# Altium schematic symbol library Hydroscope.SCHLIB: 61 symbols (part 1 of 2)
Pins are listed as number, name and electrical type; pins without a type are passive.

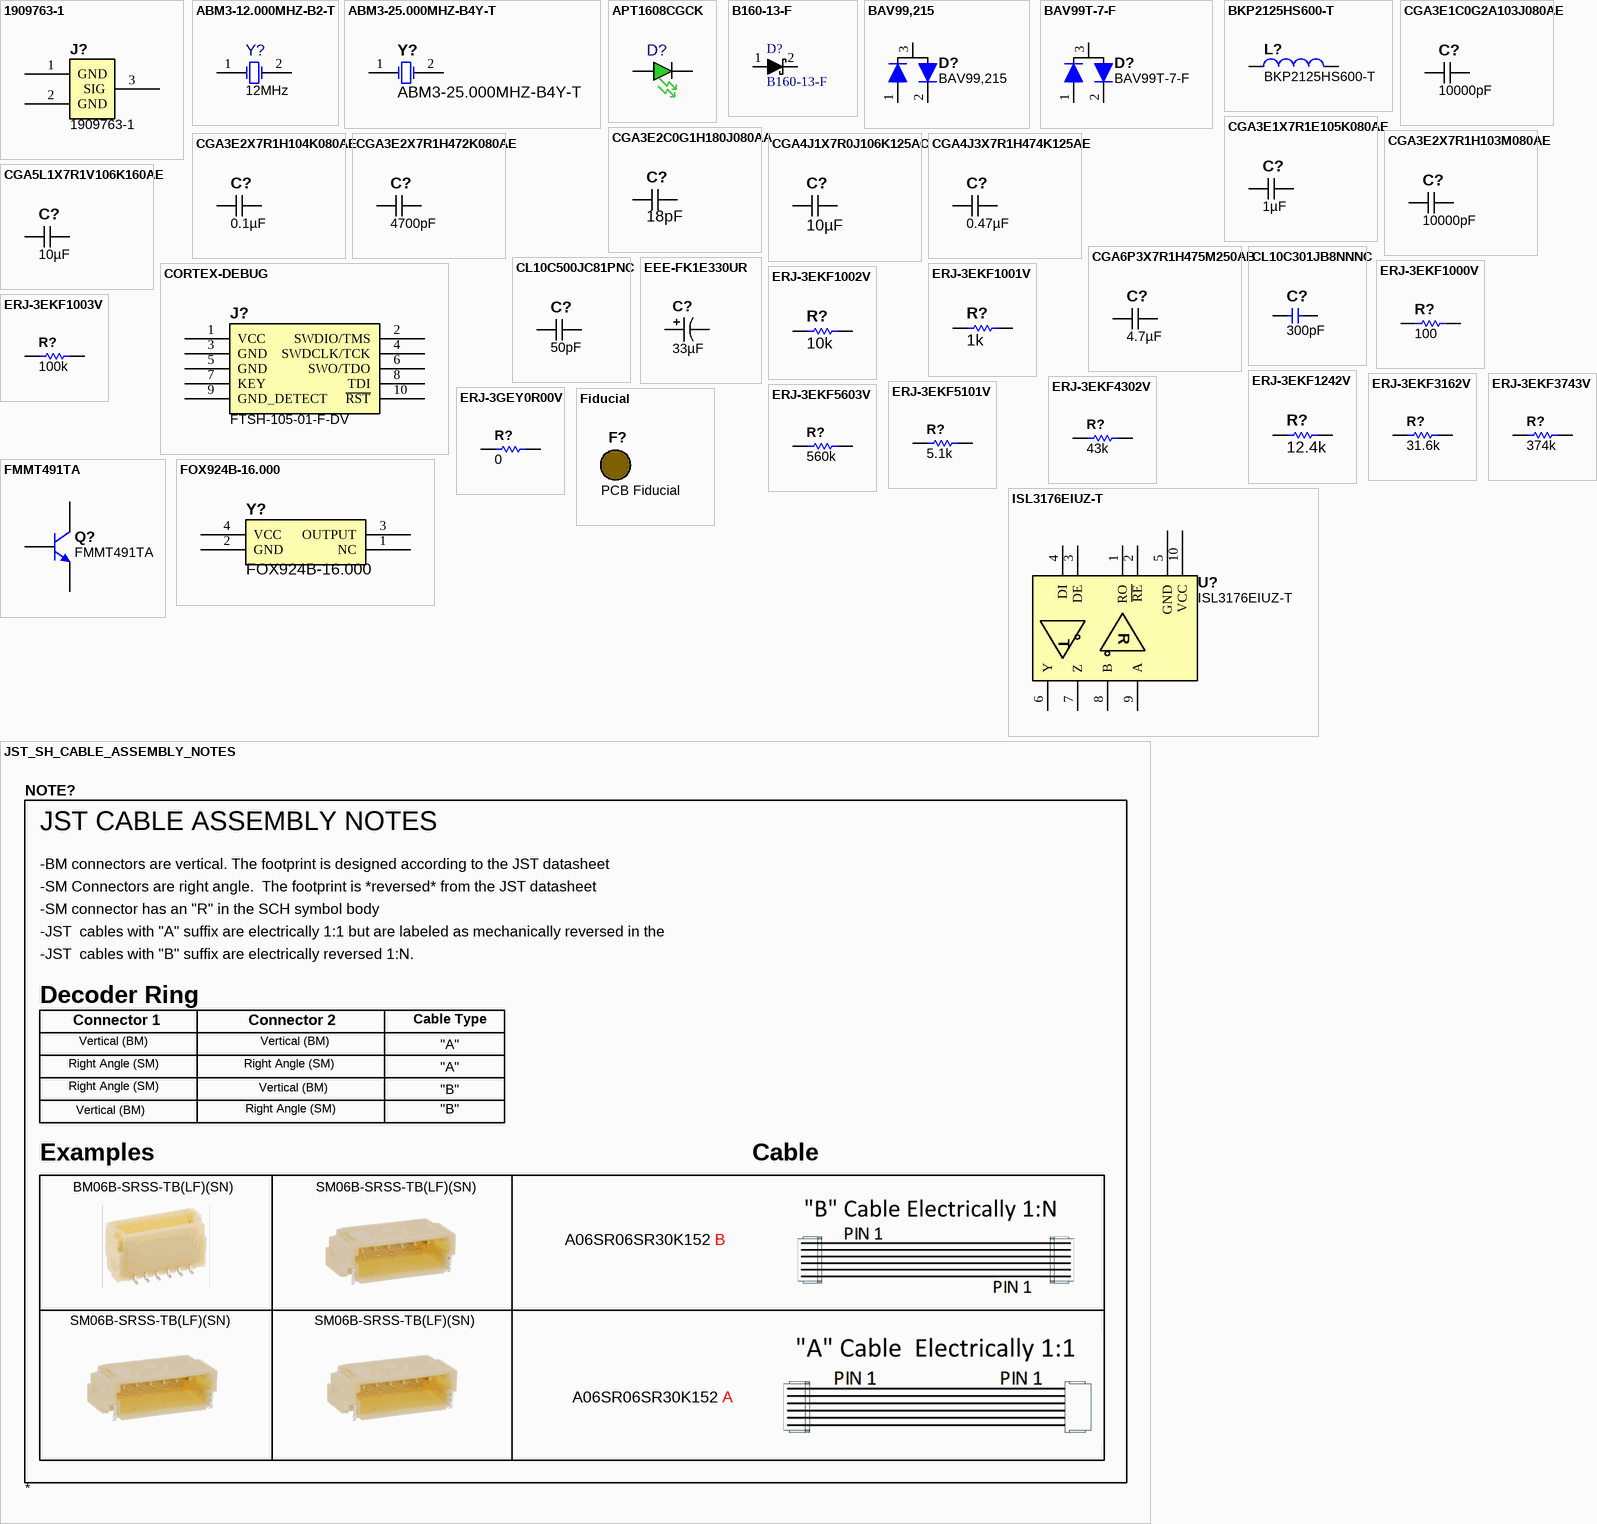
[diagram p0: symbols 1909763-1 to JST_SH_CABLE_ASSEMBLY_NOTES]

## 1909763-1
designator J?
CONN UMCC JACK STR 50OHM SMD; Manufacturer: TE Connectivity AMP Connectors; Connector Style: Ultra Miniature Coaxial; Connector Type: Jack, Male Pin; Contact Termination: Solder; Body Material: Copper Alloy; Body Finish: Gold; Dielectric Material: Liquid Crystal Polymer (LCP); Voltage Rating: 60V; Mating Cycles: 30; Insertion Loss: 0.24dB; Value: 1909763-1; Supplier 1: Digi-Key; Supplier Part Number 1: A118077CT-ND; Manufacturer Part Number: 1909763-1; RoHS: RoHS Compliant; Category: Connectors, Interconnects; Stock 1: 75031; Pricing 1: 1=0.49, 10=0.462, 25=0.416, 50=0.3696, 100=0.3542, 250=0.3234, 500=0.308, 1000=0.2541, 2500=0.231 (USD); Packaging: Cut Tape (CT); Part Status: Active; Shield Termination: Solder; Impedance: 50 Ohm; Mounting Type: Surface Mount; Mounting Feature: -; Cable Group: -; Fastening Type: Snap-On; Features: -; Housing Color: Ivory; Ingress Protection: -; Includes: -; Center Contact Plating: Gold; Operating Temperature: -40°C ~ 90°C; Center Contact Material: Copper Alloy; ComponentLink1URL: http://www.te.com/commerce/DocumentDelivery/DDEController?Action=srchrtrv&DocNm=1909763&DocType=Customer+Drawing&DocLang=English; ComponentLink1Description: http://www.te.com/commerce/DocumentDelivery/DDEController?Action=srchrtrv&DocNm=1909763&DocType=Customer+Drawing&DocLang=English
footprint 1909763-1 (CONN UMCC JACK STR 50OHM SMD)
pins: 1 GND, 2 GND, 3 SIG

## ABM3-12.000MHZ-B2-T
designator Y?, comment 12MHz
CRYSTAL 12.000MHZ 18PF SMD; Manufacturer: Abracon Corporation; Manufacturer Part Number: ABM3-12.000MHZ-B2-T; Frequency Stability: ±50ppm; Frequency Tolerance: ±20ppm; Operating Mode: Fundamental; Supplier 1: Digi-Key; RoHS: RoHS Compliant; Category: Crystals and Oscillators; Stock 1: 22557; Pricing 1: 1=1.88, 10=1.625, 50=1.425, 100=1.125, 500=0.95 (USD); Type: MHz Crystal; Frequency: 12MHz; Load Capacitance: 18pF; Operating Temperature: -20°C ~ 70°C; Mounting Type: Surface Mount; Package / Case: 2-SMD, No Lead (DFN, LCC); Size / Dimension: 0.197" L x 0.126" W (5.00mm x 3.20mm); Height: 0.051" (1.30mm); Packaging: Cut Tape (CT); ComponentLink1URL: http://www.abracon.com/Resonators/abm3.pdf; ComponentLink1Description: http://www.abracon.com/Resonators/abm3.pdf; Supplier Part Number 1: 535-9100-1-ND; Value: 12MHz
footprint ABM3 (Abracon Crystal 5x3.2mm)
pins: 1 OSC1, 2 OSC2

## ABM3-25.000MHZ-B4Y-T
designator Y?
25MHz ±30ppm Crystal 18pF 30 Ohm -20°C ~ 70°C  Surface Mount 2-SMD, No Lead (DFN, LCC); Manufacturer: Abracon; ESR (Equivalent Series Resistance): 30R; Value: ABM3-25.000MHZ-B4Y-T; Supplier 1: Digi-Key; Supplier Part Number 1: 535-13587-1-ND; Manufacturer Part Number: ABM3-25.000MHZ-B4Y-T; Stock 1: 1849; Pricing 1: 1=1.09, 10=0.961, 50=0.8988, 100=0.7942, 500=0.7524 (USD); Mount: Surface Mount; Case/Package: SMD/SMT; Min Operating Temperature: -20°C; Max Operating Temperature: 70°C; Packaging: Tape and Reel; Frequency: 25MHz; Load Capacitance: 18pF; Frequency Stability: 30ppm; Frequency Tolerance: 30ppm; Length: 0.197inch; Height: 0.051inch; Width: 0.126inch; ComponentLink1URL: http://www.abracon.com/Resonators/abm3.pdf; ComponentLink1Description: http://www.abracon.com/Resonators/abm3.pdf
footprint ABM3 (Abracon Crystal 5x3.2mm)
pins: 1 OSC1, 2 OSC2

## APT1608CGCK
designator D?, comment LED 1.6X0.8MM 570NM GRN CLR SMD  (value not drawn)
Manufacturer: Kingbright Corp; Manufacturer Part Number: APT1608CGCK; Wavelength - Peak: 574nm; Millicandela Rating: 50mcd; Voltage - Forward (Vf) Typ: 2.1V; Viewing Angle: 120°; Color: Green; Current - Test: 20mA; Lens Type: Clear; Lens Style/Size: Rectangle with Flat Top, 1.2mm x 0.8mm; Value: LED 1.6X0.8MM 570NM GRN CLR SMD; RoHS: RoHS Compliant; Wavelength - Dominant: 570nm; Size / Dimension: 1.60mm L x 0.80mm W; Package / Case: 0603 (1608 Metric); Mounting Type: Surface Mount; Packaging: Tape & Reel (TR); Supplier 1: Digi-Key; Supplier Part Number 1: 754-1116-1-ND; Category: Optoelectronics; Stock 1: 89450; Pricing 1: 1=0.2, 10=0.153, 25=0.1224, 100=0.1105, 250=0.102, 500=0.0918 (USD); Height: 0.75mm; Luminous Flux @ Current - Test: -; ComponentLink1URL: http://www.us.kingbright.com/images/catalog/SPEC/APT1608CGCK.pdf; ComponentLink1Description: http://www.us.kingbright.com/images/catalog/SPEC/APT1608CGCK.pdf; Supplier 2: Digikey; Supplier Part Number 2: 160-2162-1-ND
footprint LED_0603 - GREEN
pins: A, C

## B160-13-F
designator D?
DIODE SCHOTTKY 60V 1A SMA; Manufacturer: Diodes Inc; CategorySort: 400; Voltage - Forward (Vf) (Max) @ If: 700mV @ 1A; Speed: Fast Recovery =< 500ns- > 200mA (Io); Current - Reverse Leakage @ Vr: 500µA @ 60V; Capacitance @ Vr- F: 110pF @ 4V- 1MHz; Num Pins: 2; Diode Suffix: 1A_2C; Category: Diodes; Value: B160-13-F; Manufacturer Part Number: B160-13-F; ComponentLink1Description: Internal Datasheet; ComponentLink1URL: http://www.diodes.com/datasheets/ds13002.pdf; ComponentLink2Description: External Datasheet; ComponentLink2URL: http://www.diodes.com/datasheets/ds13002.pdf; Supplier 1: Digi-Key; Supplier Part Number 1: B160-FDICT-ND; SortValue: B160-13-F; Diode Type: Schottky; Voltage - DC Reverse (Vr) (Max): 60V; Current - Average Rectified (Io): 1A; Reverse Recovery Time (trr): -; Mounting Type: Surface Mount; Package: DO-214AC- SMA; Supplier Device Package: SMA; Packaging: Cut Tape (CT)
footprint D_SMA_P
footprint -
pins: 1 A, 2 K

## BAV99,215
designator D?
DIODE ARRAY GP 100V 215MA SOT23; Manufacturer: NXP Semiconductors; Peak Non-Repetitive Surge Current: 4A; Reverse Recovery Time: 4ns; Peak Reverse Current: 500nA; Forward Voltage: 1.25V; Power Dissipation: 250mW; Max Power Dissipation: 250W; Breakdown Voltage: 75V; Supplier 1: Digi-Key; Supplier Part Number 1: 954-BAV99215-CHP; Manufacturer Part Number: BAV99,215; Stock 1: 0; Mount: Surface Mount; Case/Package: TO-236-3; Number of Pins: 3; Weight: 0.01lb; Contact Plating: Tin,Matte; Min Operating Temperature: -65°C; Max Operating Temperature: 150°C; Packaging: Tape and Reel; Forward Current: 215mA; Max Repetitive Reverse Voltage (Vrrm): 100V; Max Surge Current: 4A; Package Quantity: 1; Recovery Time: 4ns; Average Rectified Current: 215mA; Max Forward Surge Current (Ifsm): 4A; Termination: SMD/SMT; Voltage: 100V; Max Reverse Voltage (DC): 100V; Length: 0.25inch; Height: 0.25inch; Width: 0.25inch; Lead Free: Lead Free; REACH SVHC: No SVHC; ComponentLink1URL: https://datasheet.ciiva.com/33728/953882-33728752.pdf; ComponentLink1Description: https://datasheet.ciiva.com/33728/953882-33728752.pdf; ComponentLink2URL: https://datasheet.ciiva.com/904/bav99-ser-904513.pdf; ComponentLink2Description: https://datasheet.ciiva.com/904/bav99-ser-904513.pdf; ComponentLink3URL: https://datasheet.ciiva.com/4434/bav99-ser-4434805.pdf; ComponentLink3Description: https://datasheet.ciiva.com/4434/bav99-ser-4434805.pdf; ComponentLink4URL: https://datasheet.ciiva.com/16474/bav99-ser-16474903.pdf; ComponentLink4Description: https://datasheet.ciiva.com/16474/bav99-ser-16474903.pdf; ComponentLink5URL: https://datasheet.ciiva.com/22628/953882-22628007.pdf; ComponentLink5Description: https://datasheet.ciiva.com/22628/953882-22628007.pdf; ComponentLink6URL: https://datasheet.ciiva.com/36858/953882-36858552.pdf; ComponentLink6Description: https://datasheet.ciiva.com/36858/953882-36858552.pdf; ComponentLink7URL: https://datasheet.ciiva.com/904/bav99-ser-904509.pdf; ComponentLink7Description: https://datasheet.ciiva.com/904/bav99-ser-904509.pdf; ComponentLink8URL: https://datasheet.ciiva.com/904/bav99-ser-904511.pdf; ComponentLink8Description: https://datasheet.ciiva.com/904/bav99-ser-904511.pdf; Value: BAV99,215
footprint SOT-23
pins: 1 A, 2 C, 3 AC

## BAV99T-7-F
designator D?
DIODES INC.         BAV99T-7-F            Small Signal Diode, Switching, Dual Series, 85 V, 155 mA, 1.25 V, 4 ns, 4 A; Peak Non-Repetitive Surge Current: 4A; Forward Current: 155mA; Reverse Recovery Time: 4ns; Peak Reverse Current: 2uA; Max Repetitive Reverse Voltage (Vrrm): 85V; Forward Voltage: 1.25V; Power Dissipation: 150mW; Average Rectified Current: 75mA; Capacitance: 1.5pF; Current Rating: 50mA; Supplier 1: Digi-Key; Supplier Part Number 1: BAV99T-FDICT-ND; Manufacturer: Diodes; Manufacturer Part Number: BAV99T-7-F; Stock 1: 184990; Mount: Surface Mount; Case/Package: SOT-523; Number of Pins: 3; Weight: 7.1E-05oz; Contact Plating: Tin,Matte; Min Operating Temperature: -65°C; Max Operating Temperature: 150°C; Packaging: Tape and Reel; Max Surge Current: 4A; Package Quantity: 3000; Recovery Time: 4ns; Max Forward Surge Current (Ifsm): 4A; Max Reverse Voltage (DC): 85V; Length: 1.6mm; Height: 0.75mm; Width: 0.8mm; Lead Free: Lead Free; REACH SVHC: No SVHC; ComponentLink1URL: https://datasheet.ciiva.com/8301/ds30260-8301823.pdf; ComponentLink1Description: https://datasheet.ciiva.com/8301/ds30260-8301823.pdf; ComponentLink2URL: https://datasheet.ciiva.com/25946/ds30260-25946623.pdf; ComponentLink2Description: https://datasheet.ciiva.com/25946/ds30260-25946623.pdf; Value: BAV99T-7-F; Pricing 1: 1=0.34, 10=0.28, 100=0.1485, 500=0.09772, 1000=0.06645 (USD); Power Rating: 150mW; Voltage Rating (DC): 85V; Radiation Hardening: No
footprint D_SOT-523_P (SOT-523 Diode - Polarized)
pins: 1 A, 2 C, 3 AC

## BKP2125HS600-T
designator L?
FERRITE BEAD 60 OHM 0805 1LN; Manufacturer: Taiyo Yuden; Filter Type: Power Line; Number of Lines: 1; Impedance @ Frequency: 60 Ohm @ 100MHz; Current Rating (Max): 3A; DC Resistance (DCR) (Max): 25 mOhm; Manufacturer Part Number: BKP2125HS600-T; RoHS: RoHS Compliant; Category: Filters; Packaging: Tape & Reel (TR); Ratings: -; Operating Temperature: -55°C ~ 85°C; Package / Case: 0805 (2012 Metric); Mounting Type: Surface Mount; Height (Max): 0.041" (1.05mm); Size / Dimension: 0.079" L x 0.049" W (2.00mm x 1.25mm); ComponentLink1URL: http://ds.yuden.co.jp/TYCOMPAS/ut/detail.do?productNo=BKP2125HS600-T&fileName=BKP2125HS600-T_SS&mode=specSheetDownload; ComponentLink1Description: http://ds.yuden.co.jp/TYCOMPAS/ut/detail.do?productNo=BKP2125HS600-T&fileName=BKP2125HS600-T_SS&mode=specSheetDownload; Value: BKP2125HS600-T; Supplier 1: Digi-Key; Supplier Part Number 1: 587-3973-1-ND; Stock 1: 7069; Pricing 1: 1=0.21, 10=0.17, 50=0.1094, 100=0.0943, 250=0.07548, 500=0.06792, 1000=0.0566 (USD); ComponentLink2URL: http://ds.yuden.co.jp/TYCOMPAS/ut/detail.do?productNo=BKP2125HS600-TV&fileName=BKP2125HS600-TV_SS&mode=specSheetDownload; ComponentLink2Description: http://ds.yuden.co.jp/TYCOMPAS/ut/detail.do?productNo=BKP2125HS600-TV&fileName=BKP2125HS600-TV_SS&mode=specSheetDownload
footprint C0805_0.8mm (Chip Capacitor, Body 2.0x0.8mm, IPC High Density)
pins: 1, 2

## CGA3E1C0G2A103J080AE
designator C?, comment 10000pF
CAP CER 10000PF 100V C0GNP0 0603; Manufacturer Part Number: CGA3E1C0G2A103J080AE; Manufacturer: TDK Corporation; Temperature Coefficient: C0G, NP0; Tolerance: ±5%; Substitution Notes: 10000pF , 100V , ±5% , C0G, NP0 , -55°C ~ 125°C , AEC-Q200 , 0603; Value: 10000pF; ComponentLink1Description: Datasheet (Internal); ComponentLink1URL: datasheets\TDK\mlcc_automotive_general_en.pdf; ComponentLink2Description: Datasheet (External); ComponentLink2URL: https://product.tdk.com/info/en/catalog/datasheets/mlcc_automotive_general_en.pdf; Supplier 1: Digikey; Supplier Part Number 1: 445-175658-1-ND; Category: Capacitors; Voltage - Rated: 100V; Operating Temperature: -55°C ~ 125°C; Ratings: AEC-Q200; Package: 0603; Thickness (Max): 0.95MM; Features: Soft Termination
footprint C0603_0.95MM_HD
footprint C0603_0.95MM_MD
footprint C0603_0.95MM_LD
pins: 1, 2 1

## CGA3E1X7R1E105K080AE
designator C?, comment 1µF
CAP CER 1UF 25V X7R 0603; Manufacturer Part Number: CGA3E1X7R1E105K080AE; Manufacturer: TDK Corporation; Tolerance: ±10%; Substitution Notes: 1µF , 25V , ±10% , X7R , -55°C ~ 125°C , AEC-Q200 , 0603; Value: 1µF; Temperature Coefficient: X7R; ComponentLink1Description: Datasheet (Internal); ComponentLink1URL: datasheets\TDK\mlcc_automotive_general_en.pdf; ComponentLink2Description: Datasheet (External); ComponentLink2URL: https://product.tdk.com/info/en/catalog/datasheets/mlcc_automotive_general_en.pdf; Supplier 1: Digikey; Supplier Part Number 1: 445-173628-1-ND; Category: Capacitors; Voltage - Rated: 25V; Operating Temperature: -55°C ~ 125°C; Ratings: AEC-Q200; Package: 0603; Thickness (Max): 0.95MM; Features: Soft Termination
footprint C0603_0.95MM_HD
footprint C0603_0.95MM_MD
footprint C0603_0.95MM_LD
pins: 1, 2 1

## CGA3E2C0G1H180J080AA
designator C?, comment 18pF
CAP CER 18PF 50V C0G 0603; Manufacturer Part Number: CGA3E2C0G1H180J080AA; Manufacturer: TDK Corporation; Temperature Coefficient: C0G, NP0; Tolerance: ±5%; Substitution Notes: 18pF , 50V , ±5% , C0G, NP0 , -55°C ~ 125°C , AEC-Q200 , 0603; Value: 18pF; ComponentLink1Description: Datasheet (Internal); ComponentLink1URL: datasheets\TDK\mlcc_automotive_general_en.pdf; ComponentLink2Description: Datasheet (External); ComponentLink2URL: https://product.tdk.com/info/en/catalog/datasheets/mlcc_automotive_general_en.pdf; Supplier 1: Digikey; Supplier Part Number 1: 445-5631-1-ND; Category: Capacitors; Voltage - Rated: 50V; Operating Temperature: -55°C ~ 125°C; Ratings: AEC-Q200; Package: 0603; Thickness (Max): 0.90MM; Features: -
footprint C0603_0.90MM_HD
footprint C0603_0.90MM_MD
footprint C0603_0.90MM_LD
pins: 1, 2 1

## CGA3E2X7R1H103M080AE
designator C?, comment 10000pF
CAP CER 10000PF 50V X7R 0603; Manufacturer Part Number: CGA3E2X7R1H103M080AE; Manufacturer: TDK Corporation; Tolerance: ±20%; Substitution Notes: 10000pF , 50V , ±20% , X7R , -55°C ~ 125°C , AEC-Q200 , 0603; Value: 10000pF; Temperature Coefficient: X7R; ComponentLink1Description: Datasheet (Internal); ComponentLink1URL: datasheets\TDK\mlcc_automotive_general_en.pdf; ComponentLink2Description: Datasheet (External); ComponentLink2URL: https://product.tdk.com/info/en/catalog/datasheets/mlcc_automotive_general_en.pdf; Supplier 1: Digikey; Supplier Part Number 1: 445-15956-1-ND; Category: Capacitors; Voltage - Rated: 50V; Operating Temperature: -55°C ~ 125°C; Ratings: AEC-Q200; Package: 0603; Thickness (Max): 0.90MM; Features: Soft Termination
footprint C0603_0.90MM_HD
footprint C0603_0.90MM_MD
footprint C0603_0.90MM_LD
pins: 1, 2 1

## CGA3E2X7R1H104K080AE
designator C?, comment 0.1µF
CAP CER 0.1UF 50V X7R 0603; Manufacturer Part Number: CGA3E2X7R1H104K080AE; Manufacturer: TDK Corporation; Tolerance: ±10%; Substitution Notes: 0.1µF , 50V , ±10% , X7R , -55°C ~ 125°C , AEC-Q200 , 0603; Value: 0.1µF; Temperature Coefficient: X7R; ComponentLink1Description: Datasheet (Internal); ComponentLink1URL: datasheets\TDK\mlcc_automotive_general_en.pdf; ComponentLink2Description: Datasheet (External); ComponentLink2URL: https://product.tdk.com/info/en/catalog/datasheets/mlcc_automotive_general_en.pdf; Supplier 1: Digikey; Supplier Part Number 1: 445-15957-1-ND; Category: Capacitors; Voltage - Rated: 50V; Operating Temperature: -55°C ~ 125°C; Ratings: AEC-Q200; Package: 0603; Thickness (Max): 0.90MM; Features: Soft Termination
footprint C0603_0.90MM_HD
footprint C0603_0.90MM_MD
footprint C0603_0.90MM_LD
pins: 1, 2 1

## CGA3E2X7R1H472K080AE
designator C?, comment 4700pF
CAP CER 4700PF 50V X7R 0603; Manufacturer Part Number: CGA3E2X7R1H472K080AE; Manufacturer: TDK Corporation; Tolerance: ±10%; Substitution Notes: 4700pF , 50V , ±10% , X7R , -55°C ~ 125°C , AEC-Q200 , 0603; Value: 4700pF; Temperature Coefficient: X7R; ComponentLink1Description: Datasheet (Internal); ComponentLink1URL: datasheets\TDK\mlcc_automotive_general_en.pdf; ComponentLink2Description: Datasheet (External); ComponentLink2URL: https://product.tdk.com/info/en/catalog/datasheets/mlcc_automotive_general_en.pdf; Supplier 1: Digikey; Supplier Part Number 1: 445-173691-1-ND; Category: Capacitors; Voltage - Rated: 50V; Operating Temperature: -55°C ~ 125°C; Ratings: AEC-Q200; Package: 0603; Thickness (Max): 0.95MM; Features: Soft Termination
footprint C0603_0.95MM_HD
footprint C0603_0.95MM_MD
footprint C0603_0.95MM_LD
pins: 1, 2 1

## CGA4J1X7R0J106K125AC
designator C?, comment 10µF
CAP CER 10UF 6.3V X7R 0805; Manufacturer Part Number: CGA4J1X7R0J106K125AC; Manufacturer: TDK Corporation; Tolerance: ±10%; Substitution Notes: 10µF , 6.3V , ±10% , X7R , -55°C ~ 125°C , AEC-Q200 , 0805; Value: 10µF; Temperature Coefficient: X7R; ComponentLink1Description: Datasheet (Internal); ComponentLink1URL: datasheets\TDK\mlcc_automotive_general_en.pdf; ComponentLink2Description: Datasheet (External); ComponentLink2URL: https://product.tdk.com/info/en/catalog/datasheets/mlcc_automotive_general_en.pdf; Supplier 1: Digikey; Supplier Part Number 1: 445-6971-1-ND; Category: Capacitors; Voltage - Rated: 6.3V; Operating Temperature: -55°C ~ 125°C; Ratings: AEC-Q200; Package: 0805; Thickness (Max): 1.45MM; Features: -
footprint C0805_1.45MM_HD
footprint C0805_1.45MM_MD
footprint C0805_1.45MM_LD
pins: 1, 2 1

## CGA4J3X7R1H474K125AE
designator C?, comment 0.47µF
CAP CER 0.47UF 50V X7R 0805; Manufacturer Part Number: CGA4J3X7R1H474K125AE; Manufacturer: TDK Corporation; Tolerance: ±10%; Substitution Notes: 0.47µF , 50V , ±10% , X7R , -55°C ~ 125°C , AEC-Q200 , 0805; Value: 0.47µF; Temperature Coefficient: X7R; ComponentLink1Description: Datasheet (Internal); ComponentLink1URL: datasheets\TDK\mlcc_automotive_general_en.pdf; ComponentLink2Description: Datasheet (External); ComponentLink2URL: https://product.tdk.com/info/en/catalog/datasheets/mlcc_automotive_general_en.pdf; Supplier 1: Digikey; Supplier Part Number 1: 445-8786-1-ND; Category: Capacitors; Voltage - Rated: 50V; Operating Temperature: -55°C ~ 125°C; Ratings: AEC-Q200; Package: 0805; Thickness (Max): 1.45MM; Features: Soft Termination
footprint C0805_1.45MM_HD
footprint C0805_1.45MM_MD
footprint C0805_1.45MM_LD
pins: 1, 2 1

## CGA5L1X7R1V106K160AE
designator C?, comment 10µF
CAP CER 10UF 35V X7R 1206; Manufacturer Part Number: CGA5L1X7R1V106K160AE; Manufacturer: TDK Corporation; Tolerance: ±10%; Substitution Notes: 10µF , 35V , ±10% , X7R , -55°C ~ 125°C , AEC-Q200 , 1206; Value: 10µF; Temperature Coefficient: X7R; ComponentLink1Description: Datasheet (Internal); ComponentLink1URL: datasheets\TDK\mlcc_automotive_general_en.pdf; ComponentLink2Description: Datasheet (External); ComponentLink2URL: https://product.tdk.com/info/en/catalog/datasheets/mlcc_automotive_general_en.pdf; Supplier 1: Digikey; Supplier Part Number 1: 445-172483-1-ND; Category: Capacitors; Voltage - Rated: 35V; Operating Temperature: -55°C ~ 125°C; Ratings: AEC-Q200; Package: 1206; Thickness (Max): 1.90MM; Features: Soft Termination
footprint C1206_1.90MM_HD
footprint C1206_1.90MM_MD
footprint C1206_1.90MM_LD
pins: 1, 2 1

## CGA6P3X7R1H475M250AB
designator C?, comment 4.7µF
CAP CER 4.7UF 50V X7R 1210; Manufacturer Part Number: CGA6P3X7R1H475M250AB; Manufacturer: TDK Corporation; Tolerance: ±20%; Substitution Notes: 4.7µF , 50V , ±20% , X7R , -55°C ~ 125°C , AEC-Q200 , 1210; Value: 4.7µF; Temperature Coefficient: X7R; ComponentLink1Description: Datasheet (Internal); ComponentLink1URL: datasheets\TDK\mlcc_automotive_general_en.pdf; ComponentLink2Description: Datasheet (External); ComponentLink2URL: https://product.tdk.com/info/en/catalog/datasheets/mlcc_automotive_general_en.pdf; Supplier 1: Digikey; Supplier Part Number 1: 445-13030-1-ND; Category: Capacitors; Voltage - Rated: 50V; Operating Temperature: -55°C ~ 125°C; Ratings: AEC-Q200; Package: 1210; Thickness (Max): 2.80MM; Features: -
footprint C1210_2.80MM_HD
footprint C1210_2.80MM_MD
footprint C1210_2.80MM_LD
pins: 1, 2 1

## CL10C301JB8NNNC
designator C?, comment 300pF
Cap Ceramic 300pF 50V C0G 5% SMD 0603 125C Paper T/R; Manufacturer Part Number: CL10C301JB8NNNC; Manufacturer: Samsung; Value: 300pF; ComponentLink1Description: https://datasheet.ciiva.com/25733/cl10c301jb8nnnc-25733017.pdf?src-supplier=Digi-Key; ComponentLink1URL: https://datasheet.ciiva.com/25733/cl10c301jb8nnnc-25733017.pdf?src-supplier=Digi-Key; Supplier 1: Digi-Key; Supplier Part Number 1: 1276-2261-1-ND; Tolerance: 5%; Stock 1: 199782; Pricing 1: 1 = 0.10000, 10 = 0.06500, 100 = 0.02910, 500 = 0.02080, 1000 = 0.01634 (USD); RoHS: Yes; Mount: Surface Mount; Case/Package: 0603; Case Code (Metric): 1608; Case Code (Imperial): 0603; Min Operating Temperature: -55°C; Max Operating Temperature: 125°C; Capacitance: 300pF; Dielectric: C0G; Package Quantity: 1; Packaging: Tape and Reel; Voltage Rating: 50V; Voltage Rating (DC): 50V; Length: 1.6mm; Height: 0.8mm; Width: 0.031inch; Thickness: 0.035inch; Depth: 0.8mm; Radiation Hardening: No; Lead Free: Lead Free
footprint C0603_0.90mm_MD (Capacitor 0603 - Medium Density)
pins: 1, 2

## CL10C500JC81PNC
designator C?, comment 50pF
CAP CER 50PF 100V C0G/NP0 0603; Manufacturer Part Number: CL10C500JC81PNC; Manufacturer: Samsung Electro-Mechanics; Temperature Coefficient: C0G, NP0; Tolerance: ±5%; Substitution Notes: 50pF , 100V , -55°C ~ 125°C , C0G, NP0  , AEC-Q200 , 0603; Value: 50pF; ComponentLink1Description: Datasheet (Internal); ComponentLink1URL: datasheets\Samsung\CL05B153KB5VPNC.pdf.pdf; ComponentLink2Description: Datasheet (External); ComponentLink2URL: http://www.samsungsem.com/kr/support/product-search/mlcc/__icsFiles/afieldfile/2017/05/25/CL05B153KB5VPNC.pdf; Supplier 1: Digikey; Supplier Part Number 1: 1276-6589-1-ND; Category: Capacitors; Voltage - Rated: 100V; Operating Temperature: -55°C ~ 125°C; Ratings: AEC-Q200; Package: 0603; Thickness (Max): 0.90MM; Features: -
footprint C0603_0.90MM_HD
footprint C0603_0.90MM_MD
footprint C0603_0.90MM_LD
pins: 1, 2 1

## CORTEX-DEBUG
designator J?, comment FTSH-105-01-F-DV
SAMTEC - FTSH-105-01-F-DV - .050 X .050; Value: FTSH-105-01-F-DV; Supplier 1: Newark; Manufacturer: SAMTEC; Manufacturer Part Number: FTSH-105-01-F-DV; Category: Connectors; Stock 1: 0; Pricing 1: 1=0.974, 25000=0.835, 50000=0.774 (USD); Supplier Part Number 1: 01R3399
footprint FTSH-105-04-F-DV - HD - NO_STEP (Connector for Cortex Serial Wire Debug)
footprint FTSH-105-04-F-DV - HD (Connector for Cortex Serial Wire Debug)
pins: 1 VCC, 2 SWDIO/TMS, 3 GND, 4 SWDCLK/TCK, 5 GND, 6 SWO/TDO, 7 KEY, 8 TDI, 9 GND_DETECT, 10 ~{RST}

## EEE-FK1E330UR
designator C?, comment 33µF
CAP ALUM 33UF 25V 20% SMD; Manufacturer Part Number: EEE-FK1E330UR; Manufacturer: Panasonic Electronic Components; Lifetime @ Temp#: 2000 Hrs @ 105°C; Ripple Current: 160mA; Impedance: 700 mOhm; Surface Mount Land Size: 0.209" L x 0.209" W (5.30mm x 5.30mm); F40: UR; Value_Voltage: 33µF  25V; Value: 33µF; Temperature Coefficient: Temperature Coefficient; ComponentLink1Description: Internal Datasheet; ComponentLink1URL: http://industrial.panasonic.com/www-cgi/jvcr13pz.cgi?E+PZ+3+ABA0120+EEEFK1E330UR+7+WW; ComponentLink2Description: External Datasheet; ComponentLink2URL: http://industrial.panasonic.com/www-cgi/jvcr13pz.cgi?E+PZ+3+ABA0120+EEEFK1E330UR+7+WW; Stocked: 0; Supplier 1: Digi-Key; Supplier Part Number 1: PCE3802CT-ND; Category: Capacitors; Sort Value: 33000000; Sort Value Package: C_33000000; Pricing: 1 = 0.63  ;  50 = 0.3576  ;  100 = 0.298  ;  250 = 0.22348  ;  500 = 0.19072 (USD); Sales Status: Active; Capacitance: 33µF; Voltage Rating: 25V; Tolerance: ±20%; Operating Temperature: -55°C ~ 105°C; Features: General Purpose; ESR (Equivalent Series Resistance): -; Mounting Type: Surface Mount; Package / Case: Radial- Can - SMD; Size / Dimension: 0.197" Dia (5.00mm); Height - Seated (Max): 0.228" (5.80mm); Lead Spacing: -; Packaging: Cut Tape (CT); Diameter: 5.00; Height: 5.80; Package: C
footprint C_ALU_C
pins: 1, 2 1

## ERJ-3EKF1000V
designator R?, comment 100
RES 100 OHM 1/10W 1% 0603 SMD; Manufacturer Part Number: ERJ-3EKF1000V; Manufacturer: Panasonic Electronic Components; Package Power: 0603  (0.1W); Power (Watts): 0.1W- 1/10W; Temperature Coefficient: ±100ppm/°C; Limiting Element Voltage: 75; Maximum Overload Voltage: 150; Maximum Working Voltage: 3.2V; Substitution Notes: 100 , ±1% , 0603 , AEC-Q200; Value: 100; ComponentLink1Description: Internal Datasheet; ComponentLink1URL: datasheets\Panasonic Electronic Components\AOA0000CE2.pdf; ComponentLink2Description: External Datasheet; ComponentLink2URL: http://industrial.panasonic.com/www-data/pdf/AOA0000/AOA0000CE2.pdf; Stocked: 0; Supplier 1: Digi-Key; Supplier Part Number 1: P100HCT-ND; Category: Resistors; Resistance (Ohms): 100; Composition: Thick Film; Features: -; Tolerance: ±1%; Package: 0603 (1608 Metric); Supplier Package: 0603; Size / Dimension: 0.063" L x 0.031" W (1.60mm x 0.80mm); Height: 0.55MM; Number of Terminations: 2; Packaging: Cut Tape (CT); Sort Value: 100; Sort Value Package: 603_100; Ratings: AEC-Q200
footprint R0603_MD
footprint R0603_HD (0603 Resistor - High Density)
footprint R0603_LD
pins: 1, 2

## ERJ-3EKF1001V
designator R?, comment 1k
RES 1K OHM 1/10W 1% 0603 SMD; Manufacturer Part Number: ERJ-3EKF1001V; Manufacturer: Panasonic Electronic Components; Package Power: 0603  (0.1W); Power (Watts): 0.1W- 1/10W; Temperature Coefficient: ±100ppm/°C; Limiting Element Voltage: 75; Maximum Overload Voltage: 150; Maximum Working Voltage: 10.0V; Substitution Notes: 1k , ±1% , 0603 , AEC-Q200; Value: 1k; ComponentLink1Description: Internal Datasheet; ComponentLink1URL: datasheets\Panasonic Electronic Components\AOA0000CE2.pdf; ComponentLink2Description: External Datasheet; ComponentLink2URL: http://industrial.panasonic.com/www-data/pdf/AOA0000/AOA0000CE2.pdf; Supplier 1: Digi-Key; Supplier Part Number 1: P1.00KHCT-ND; Category: Resistors; Resistance (Ohms): 1k; Composition: Thick Film; Features: -; Tolerance: ±1%; Package: 0603 (1608 Metric); Supplier Package: 0603; Size / Dimension: 0.063" L x 0.031" W (1.60mm x 0.80mm); Height: 0.55MM; Number of Terminations: 2; Packaging: Cut Tape (CT); Sort Value: 1000; Sort Value Package: 603_1000; Ratings: AEC-Q200
footprint R0603_0.55MM_HD
footprint R0603_0.55MM_MD
footprint R0603_0.55MM_LD
pins: 1, 2

## ERJ-3EKF1002V
designator R?, comment 10k
RES 10K OHM 1/10W 1% 0603 SMD; Manufacturer Part Number: ERJ-3EKF1002V; Manufacturer: Panasonic Electronic Components; Package Power: 0603  (0.1W); Power (Watts): 0.1W- 1/10W; Temperature Coefficient: ±100ppm/°C; Limiting Element Voltage: 75; Maximum Overload Voltage: 150; Maximum Working Voltage: 31.6V; Substitution Notes: 10k , ±1% , 0603 , AEC-Q200; Value: 10k; ComponentLink1Description: Internal Datasheet; ComponentLink1URL: datasheets\Panasonic Electronic Components\AOA0000CE2.pdf; ComponentLink2Description: External Datasheet; ComponentLink2URL: http://industrial.panasonic.com/www-data/pdf/AOA0000/AOA0000CE2.pdf; Supplier 1: Digi-Key; Supplier Part Number 1: P10.0KHCT-ND; Category: Resistors; Resistance (Ohms): 10k; Composition: Thick Film; Features: -; Tolerance: ±1%; Package: 0603 (1608 Metric); Supplier Package: 0603; Size / Dimension: 0.063" L x 0.031" W (1.60mm x 0.80mm); Height: 0.55MM; Number of Terminations: 2; Packaging: Cut Tape (CT); Sort Value: 10000; Sort Value Package: 603_10000; Ratings: AEC-Q200
footprint R0603_0.55MM_HD
footprint R0603_0.55MM_MD
footprint R0603_0.55MM_LD
pins: 1, 2

## ERJ-3EKF1003V
designator R?, comment 100k
RES 100K OHM 1/10W 1% 0603 SMD; Manufacturer Part Number: ERJ-3EKF1003V; Manufacturer: Panasonic Electronic Components; Package Power: 0603  (0.1W); Power (Watts): 0.1W- 1/10W; Temperature Coefficient: ±100ppm/°C; Limiting Element Voltage: 75; Maximum Overload Voltage: 150; Maximum Working Voltage: 75.0V; Substitution Notes: 100k , ±1% , 0603 , AEC-Q200; Value: 100k; ComponentLink1Description: Internal Datasheet; ComponentLink1URL: datasheets\Panasonic Electronic Components\AOA0000CE2.pdf; ComponentLink2Description: External Datasheet; ComponentLink2URL: http://industrial.panasonic.com/www-data/pdf/AOA0000/AOA0000CE2.pdf; Supplier 1: Digi-Key; Supplier Part Number 1: P100KHCT-ND; Category: Resistors; Resistance (Ohms): 100k; Composition: Thick Film; Features: -; Tolerance: ±1%; Package: 0603 (1608 Metric); Supplier Package: 0603; Size / Dimension: 0.063" L x 0.031" W (1.60mm x 0.80mm); Height: 0.55MM; Number of Terminations: 2; Packaging: Cut Tape (CT); Sort Value: 100000; Sort Value Package: 603_100000; Ratings: AEC-Q200
footprint R0603_0.55MM_HD
footprint R0603_0.55MM_MD
footprint R0603_0.55MM_LD
pins: 1, 2

## ERJ-3EKF1242V
designator R?, comment 12.4k
RES 12.4K OHM 1/10W 1% 0603 SMD; Manufacturer Part Number: ERJ-3EKF1242V; Manufacturer: Panasonic Electronic Components; Package Power: 0603  (0.1W); Power (Watts): 0.1W- 1/10W; Temperature Coefficient: ±100ppm/°C; Limiting Element Voltage: 75; Maximum Overload Voltage: 150; Maximum Working Voltage: 35.2V; Substitution Notes: 12.4k , ±1% , 0603 , AEC-Q200; Value: 12.4k; ComponentLink1Description: Internal Datasheet; ComponentLink1URL: datasheets\Panasonic Electronic Components\AOA0000CE2.pdf; ComponentLink2Description: External Datasheet; ComponentLink2URL: http://industrial.panasonic.com/www-data/pdf/AOA0000/AOA0000CE2.pdf; Supplier 1: Digi-Key; Supplier Part Number 1: P12.4KHCT-ND; Category: Resistors; Resistance (Ohms): 12.4k; Composition: Thick Film; Features: -; Tolerance: ±1%; Package: 0603 (1608 Metric); Supplier Package: 0603; Size / Dimension: 0.063" L x 0.031" W (1.60mm x 0.80mm); Height: 0.55MM; Number of Terminations: 2; Packaging: Cut Tape (CT); Sort Value: 12400; Sort Value Package: 603_12400; Ratings: AEC-Q200
footprint R0603_0.55MM_HD
footprint R0603_0.55MM_MD
footprint R0603_0.55MM_LD
pins: 1, 2

## ERJ-3EKF3162V
designator R?, comment 31.6k
RES 31.6K OHM 1/10W 1% 0603 SMD; Manufacturer Part Number: ERJ-3EKF3162V; Manufacturer: Panasonic Electronic Components; Package Power: 0603  (0.1W); Power (Watts): 0.1W- 1/10W; Temperature Coefficient: ±100ppm/°C; Limiting Element Voltage: 75; Maximum Overload Voltage: 150; Maximum Working Voltage: 56.2V; Substitution Notes: 31.6k , ±1% , 0603 , AEC-Q200; Value: 31.6k; ComponentLink1Description: Internal Datasheet; ComponentLink1URL: datasheets\Panasonic Electronic Components\AOA0000CE2.pdf; ComponentLink2Description: External Datasheet; ComponentLink2URL: http://industrial.panasonic.com/www-data/pdf/AOA0000/AOA0000CE2.pdf; Supplier 1: Digi-Key; Supplier Part Number 1: P31.6KHCT-ND; Category: Resistors; Resistance (Ohms): 31.6k; Composition: Thick Film; Features: -; Tolerance: ±1%; Package: 0603 (1608 Metric); Supplier Package: 0603; Size / Dimension: 0.063" L x 0.031" W (1.60mm x 0.80mm); Height: 0.55MM; Number of Terminations: 2; Packaging: Cut Tape (CT); Sort Value: 31600; Sort Value Package: 603_31600; Ratings: AEC-Q200
footprint R0603_0.55MM_HD
footprint R0603_0.55MM_MD
footprint R0603_0.55MM_LD
pins: 1, 2

## ERJ-3EKF3743V
designator R?, comment 374k
RES 374K OHM 1/10W 1% 0603 SMD; Manufacturer Part Number: ERJ-3EKF3743V; Manufacturer: Panasonic Electronic Components; Package Power: 0603  (0.1W); Power (Watts): 0.1W- 1/10W; Temperature Coefficient: ±100ppm/°C; Limiting Element Voltage: 75; Maximum Overload Voltage: 150; Maximum Working Voltage: 75.0V; Substitution Notes: 374k , ±1% , 0603 , AEC-Q200; Value: 374k; ComponentLink1Description: Internal Datasheet; ComponentLink1URL: datasheets\Panasonic Electronic Components\AOA0000CE2.pdf; ComponentLink2Description: External Datasheet; ComponentLink2URL: http://industrial.panasonic.com/www-data/pdf/AOA0000/AOA0000CE2.pdf; Supplier 1: Digi-Key; Supplier Part Number 1: P374KHCT-ND; Category: Resistors; Resistance (Ohms): 374k; Composition: Thick Film; Features: -; Tolerance: ±1%; Package: 0603 (1608 Metric); Supplier Package: 0603; Size / Dimension: 0.063" L x 0.031" W (1.60mm x 0.80mm); Height: 0.55MM; Number of Terminations: 2; Packaging: Cut Tape (CT); Sort Value: 374000; Sort Value Package: 603_374000; Ratings: AEC-Q200
footprint R0603_0.55MM_HD
footprint R0603_0.55MM_MD
footprint R0603_0.55MM_LD
pins: 1, 2

## ERJ-3EKF4302V
designator R?, comment 43k
RES 43K OHM 1/10W 1% 0603 SMD; Manufacturer Part Number: ERJ-3EKF4302V; Manufacturer: Panasonic Electronic Components; Package Power: 0603  (0.1W); Power (Watts): 0.1W- 1/10W; Temperature Coefficient: ±100ppm/°C; Limiting Element Voltage: 75; Maximum Overload Voltage: 150; Maximum Working Voltage: 65.6V; Substitution Notes: 43k , ±1% , 0603 , AEC-Q200; Value: 43k; ComponentLink1Description: Internal Datasheet; ComponentLink1URL: datasheets\Panasonic Electronic Components\AOA0000CE2.pdf; ComponentLink2Description: External Datasheet; ComponentLink2URL: http://industrial.panasonic.com/www-data/pdf/AOA0000/AOA0000CE2.pdf; Supplier 1: Digi-Key; Supplier Part Number 1: P43.0KHCT-ND; Category: Resistors; Resistance (Ohms): 43k; Composition: Thick Film; Features: -; Tolerance: ±1%; Package: 0603 (1608 Metric); Supplier Package: 0603; Size / Dimension: 0.063" L x 0.031" W (1.60mm x 0.80mm); Height: 0.55MM; Number of Terminations: 2; Packaging: Cut Tape (CT); Sort Value: 43000; Sort Value Package: 603_43000; Ratings: AEC-Q200
footprint R0603_0.55MM_HD
footprint R0603_0.55MM_MD
footprint R0603_0.55MM_LD
pins: 1, 2

## ERJ-3EKF5101V
designator R?, comment 5.1k
RES 5.1K OHM 1/10W 1% 0603 SMD; Manufacturer Part Number: ERJ-3EKF5101V; Manufacturer: Panasonic Electronic Components; Package Power: 0603  (0.1W); Power (Watts): 0.1W- 1/10W; Temperature Coefficient: ±100ppm/°C; Limiting Element Voltage: 75; Maximum Overload Voltage: 150; Maximum Working Voltage: 22.6V; Substitution Notes: 5.1k , ±1% , 0603 , AEC-Q200; Value: 5.1k; ComponentLink1Description: Internal Datasheet; ComponentLink1URL: datasheets\Panasonic Electronic Components\AOA0000CE2.pdf; ComponentLink2Description: External Datasheet; ComponentLink2URL: http://industrial.panasonic.com/www-data/pdf/AOA0000/AOA0000CE2.pdf; Supplier 1: Digi-Key; Supplier Part Number 1: P5.10KHCT-ND; Category: Resistors; Resistance (Ohms): 5.1k; Composition: Thick Film; Features: -; Tolerance: ±1%; Package: 0603 (1608 Metric); Supplier Package: 0603; Size / Dimension: 0.063" L x 0.031" W (1.60mm x 0.80mm); Height: 0.55MM; Number of Terminations: 2; Packaging: Cut Tape (CT); Sort Value: 5100; Sort Value Package: 603_5100; Ratings: AEC-Q200
footprint R0603_0.55MM_HD
footprint R0603_0.55MM_MD
footprint R0603_0.55MM_LD
pins: 1, 2

## ERJ-3EKF5603V
designator R?, comment 560k
RES 560K OHM 1/10W 1% 0603 SMD; Manufacturer Part Number: ERJ-3EKF5603V; Manufacturer: Panasonic Electronic Components; Package Power: 0603  (0.1W); Power (Watts): 0.1W- 1/10W; Temperature Coefficient: ±100ppm/°C; Limiting Element Voltage: 75; Maximum Overload Voltage: 150; Maximum Working Voltage: 75.0V; Substitution Notes: 560k , ±1% , 0603 , AEC-Q200; Value: 560k; ComponentLink1Description: Internal Datasheet; ComponentLink1URL: datasheets\Panasonic Electronic Components\AOA0000CE2.pdf; ComponentLink2Description: External Datasheet; ComponentLink2URL: http://industrial.panasonic.com/www-data/pdf/AOA0000/AOA0000CE2.pdf; Supplier 1: Digi-Key; Supplier Part Number 1: P560KHCT-ND; Category: Resistors; Resistance (Ohms): 560k; Composition: Thick Film; Features: -; Tolerance: ±1%; Package: 0603 (1608 Metric); Supplier Package: 0603; Size / Dimension: 0.063" L x 0.031" W (1.60mm x 0.80mm); Height: 0.55MM; Number of Terminations: 2; Packaging: Cut Tape (CT); Sort Value: 560000; Sort Value Package: 603_560000; Ratings: AEC-Q200
footprint R0603_0.55MM_HD
footprint R0603_0.55MM_MD
footprint R0603_0.55MM_LD
pins: 1, 2

## ERJ-3GEY0R00V
designator R?, comment 0
RES 0.0 OHM 1/10W JUMP 0603 SMD; Manufacturer Part Number: ERJ-3GEY0R00V; Manufacturer: Panasonic Electronic Components; Package Power: 0603  (0.1W); Power (Watts): 0.1W- 1/10W; Tolerance: Jumper; Limiting Element Voltage: 75; Maximum Overload Voltage: 150; Maximum Working Voltage: 0.0V; Substitution Notes: 0 , Jumper , 0603 , AEC-Q200; Value: 0; ComponentLink1Description: Internal Datasheet; ComponentLink1URL: datasheets\Panasonic Electronic Components\AOA0000CE1.pdf; ComponentLink2Description: External Datasheet; ComponentLink2URL: http://industrial.panasonic.com/www-data/pdf/AOA0000/AOA0000CE1.pdf; Supplier 1: Digi-Key; Supplier Part Number 1: P0.0GCT-ND; Category: Resistors; Resistance (Ohms): 0; Composition: Thick Film; Features: -; Temperature Coefficient: -; Package: 0603 (1608 Metric); Supplier Package: 0603; Size / Dimension: 0.063" L x 0.031" W (1.60mm x 0.80mm); Height: 0.55MM; Number of Terminations: 2; Sort Value: 0; Sort Value Package: 603_0; Ratings: AEC-Q200
footprint R0603_0.55MM_HD
footprint R0603_0.55MM_MD
footprint R0603_0.55MM_LD
pins: 1, 2

## Fiducial
designator F?, comment PCB Fiducial  (no BOM)
Value: PCB Fiducial
footprint Fiducial 1mm - 2mm (1mm Pad 2mm Opening)

## FMMT491TA
designator Q?
TRANS NPN 60V 1A SOT23-3; Manufacturer: Diodes Zetex; Max Power Dissipation: 500mW; Collector Base Voltage (VCBO): 80V; hFE Min: 100; Number of Elements: 1; Frequency: 150MHz; Emitter Base Voltage (VEBO): 5V; Collector Emitter Saturation Voltage: 160mV; Element Configuration: Single; Value: FMMT491TA; Supplier 1: Digi-Key; Manufacturer Part Number: FMMT491TA; Stock 1: 30887; Pricing 1: 1=0.49, 10=0.399, 100=0.2719, 500=0.20394, 1000=0.15296 (USD); Mount: Surface Mount; Case/Package: SOT-23; Number of Pins: 3; Weight: 0.000282oz; Min Operating Temperature: -55°C; Max Operating Temperature: 150°C; Collector Emitter Voltage (VCEO): 60V; Max Collector Current: 1A; Package Quantity: 3000; Packaging: Tape and Reel; Transition Frequency: 150MHz; Collector Emitter Breakdown Voltage: 60V; Max Breakdown Voltage: 60V; Polarity: NPN; Continuous Collector Current: 1A; Termination: SMD/SMT; Power Dissipation: 500mW; Max Frequency: 150MHz; Gain Bandwidth Product: 150MHz; Voltage Rating (DC): 60V; Current Rating: 1A; Length: 3.04mm; Height: 1.02mm; Width: 1.4mm; Radiation Hardening: No; REACH SVHC: No SVHC; Lead Free: Lead Free; ComponentLink1URL: https://datasheet.ciiva.com/974/fmmt491-974176.pdf; ComponentLink1Description: https://datasheet.ciiva.com/974/fmmt491-974176.pdf; ComponentLink2URL: https://datasheet.ciiva.com/5782/313018-5782560.pdf; ComponentLink2Description: https://datasheet.ciiva.com/5782/313018-5782560.pdf; ComponentLink3URL: https://datasheet.ciiva.com/974/fmmt491-974177.pdf; ComponentLink3Description: https://datasheet.ciiva.com/974/fmmt491-974177.pdf; ComponentLink4URL: https://datasheet.ciiva.com/974/fmmt491-974178.pdf; ComponentLink4Description: https://datasheet.ciiva.com/974/fmmt491-974178.pdf; ComponentLink5URL: https://datasheet.ciiva.com/11198/fmmt491-11198278.pdf; ComponentLink5Description: https://datasheet.ciiva.com/11198/fmmt491-11198278.pdf; ComponentLink6URL: https://datasheet.ciiva.com/16211/fmmt491-16211079.pdf; ComponentLink6Description: https://datasheet.ciiva.com/16211/fmmt491-16211079.pdf; ComponentLink7URL: https://datasheet.ciiva.com/15139/getdatasheetpartid-76595-15139033.pdf; ComponentLink7Description: https://datasheet.ciiva.com/15139/getdatasheetpartid-76595-15139033.pdf; ComponentLink8URL: https://datasheet.ciiva.com/4723/fmmt491-4723531.pdf; ComponentLink8Description: https://datasheet.ciiva.com/4723/fmmt491-4723531.pdf; ComponentLink9URL: https://datasheet.ciiva.com/8029/313018-8029549.pdf; ComponentLink9Description: https://datasheet.ciiva.com/8029/313018-8029549.pdf; ComponentLink10URL: https://datasheet.ciiva.com/16614/fmmt491-16614670.pdf; ComponentLink10Description: https://datasheet.ciiva.com/16614/fmmt491-16614670.pdf; ComponentLink11URL: https://datasheet.ciiva.com/5782/313018-5782559.pdf; ComponentLink11Description: https://datasheet.ciiva.com/5782/313018-5782559.pdf; Supplier Part Number 1: FMMT491CT-ND
footprint SOT-23
pins: 1 B, 2 E, 3 C

## FOX924B-16.000
designator Y?
OSC TCXO 16.000MHZ HCMOS SMD; Manufacturer: Fox Electronics; Load Capacitance: 15pF; Frequency Tolerance: 1.5ppm; Frequency: 16MHz; Min Supply Voltage: 3.135V; Max Supply Voltage: 3.465V; Operating Supply Voltage: 3.3V; Max Supply Current: 6mA; Frequency Stability: 2.5ppm; Value: FOX924B-16.000; Supplier 1: Digi-Key; Supplier Part Number 1: 631-1071-6-ND; Manufacturer Part Number: FOX924B-16.000; Stock 1: 18310; Pricing 1: 1=2.34, 10=2.287, 50=2.178, 100=1.9058, 500=1.8513 (USD); Mount: Surface Mount; Case/Package: SMD/SMT; Number of Pins: 4; Min Operating Temperature: -30°C; Max Operating Temperature: 85°C; Packaging: Tape and Reel; Package Quantity: 1000; Length: 0.197inch; Height: 0.059inch; Width: 0.126inch; Radiation Hardening: No; REACH SVHC: No SVHC; Lead Free: Lead Free; ComponentLink1URL: https://datasheet.ciiva.com/1368/fox924-1368419.pdf; ComponentLink1Description: https://datasheet.ciiva.com/1368/fox924-1368419.pdf; ComponentLink2URL: https://datasheet.ciiva.com/867/fox924-867140.pdf; ComponentLink2Description: https://datasheet.ciiva.com/867/fox924-867140.pdf; ComponentLink3URL: https://datasheet.ciiva.com/867/fox924-867141.pdf; ComponentLink3Description: https://datasheet.ciiva.com/867/fox924-867141.pdf; ComponentLink4URL: https://datasheet.ciiva.com/867/fox924-867142.pdf; ComponentLink4Description: https://datasheet.ciiva.com/867/fox924-867142.pdf; ComponentLink5URL: https://datasheet.ciiva.com/9318/fox924-9318182.pdf; ComponentLink5Description: https://datasheet.ciiva.com/9318/fox924-9318182.pdf; ComponentLink6URL: https://datasheet.ciiva.com/16439/fox924-16439159.pdf; ComponentLink6Description: https://datasheet.ciiva.com/16439/fox924-16439159.pdf; ComponentLink7URL: https://datasheet.ciiva.com/1360/fox924-1360459.pdf; ComponentLink7Description: https://datasheet.ciiva.com/1360/fox924-1360459.pdf; ComponentLink8URL: https://datasheet.ciiva.com/9318/fox924-9318188.pdf; ComponentLink8Description: https://datasheet.ciiva.com/9318/fox924-9318188.pdf; ComponentLink9URL: https://datasheet.ciiva.com/28454/1465427-28454605.pdf; ComponentLink9Description: https://datasheet.ciiva.com/28454/1465427-28454605.pdf
footprint FOX924 (3.3V Ultra Miniature SMD HCMOS TCXO/VCTCXO)
pins: 1 NC, 2 GND, 3 OUTPUT, 4 VCC

## ISL3176EIUZ-T
designator U?
IC TXRX RS422/485 20MBPS 10MSOP; Manufacturer: Intersil; Protocol: RS422, RS485; Number of Drivers/Receivers: 1/1; Duplex: Full; Voltage - Supply: 3 V ~ 3.6 V; Value: ISL3176EIUZ-T; Supplier 1: Digi-Key; Supplier Part Number 1: ISL3176EIUZ-TCT-ND; Manufacturer Part Number: ISL3176EIUZ-T; RoHS: RoHS Compliant; Category: Integrated Circuits (ICs); Stock 1: 9164; Pricing 1: 1=1.79, 10=1.61, 100=1.2944, 500=1.06348, 1000=0.88117 (USD); Packaging: Cut Tape (CT); Part Status: Active; Type: Transceiver; Data Rate: 20Mbps; Operating Temperature: -40°C ~ 85°C; Mounting Type: Surface Mount; Package / Case: 10-TFSOP, 10-MSOP (0.118", 3.00mm Width); Supplier Device Package: 10-MSOP; ComponentLink1URL: http://www.intersil.com/content/dam/intersil/documents/isl3/isl3170e-71e-72e-73e-74e-75e-76e-77e-78e.pdf; ComponentLink1Description: http://www.intersil.com/content/dam/intersil/documents/isl3/isl3170e-71e-72e-73e-74e-75e-76e-77e-78e.pdf
footprint 10 MSOP ((Reference LTC DWG # 05-08-1661 Rev E))
pins: 1 RO, 2 ~{RE}, 3 DE, 4 DI, 5 GND, 6 Y, 7 Z, 8 B, 9 A, 10 VCC
text: T; R

## JST_SH_CABLE_ASSEMBLY_NOTES
designator NOTE?  (graphical)
Value: *
text: JST CABLE ASSEMBLY NOTES; -BM connectors are vertical. The footprint is designed according to the JST datasheet; -SM Connectors are right angle.  The footprint is *reversed* from the JST datasheet; -SM connector has an "R" in the SCH symbol body; -JST  cables with "A" suffix are electrically 1:1 but are labeled as mechanically reversed in the; -JST  cables with "B" suffix are electrically reversed 1:N.; Decoder Ring; Cable Type; Connector 1; Connector 2; Vertical (BM); "A"; Right Angle (SM); "B"; Examples; Cable; BM06B-SRSS-TB(LF)(SN); SM06B-SRSS-TB(LF)(SN); A06SR06SR30K152; B; A

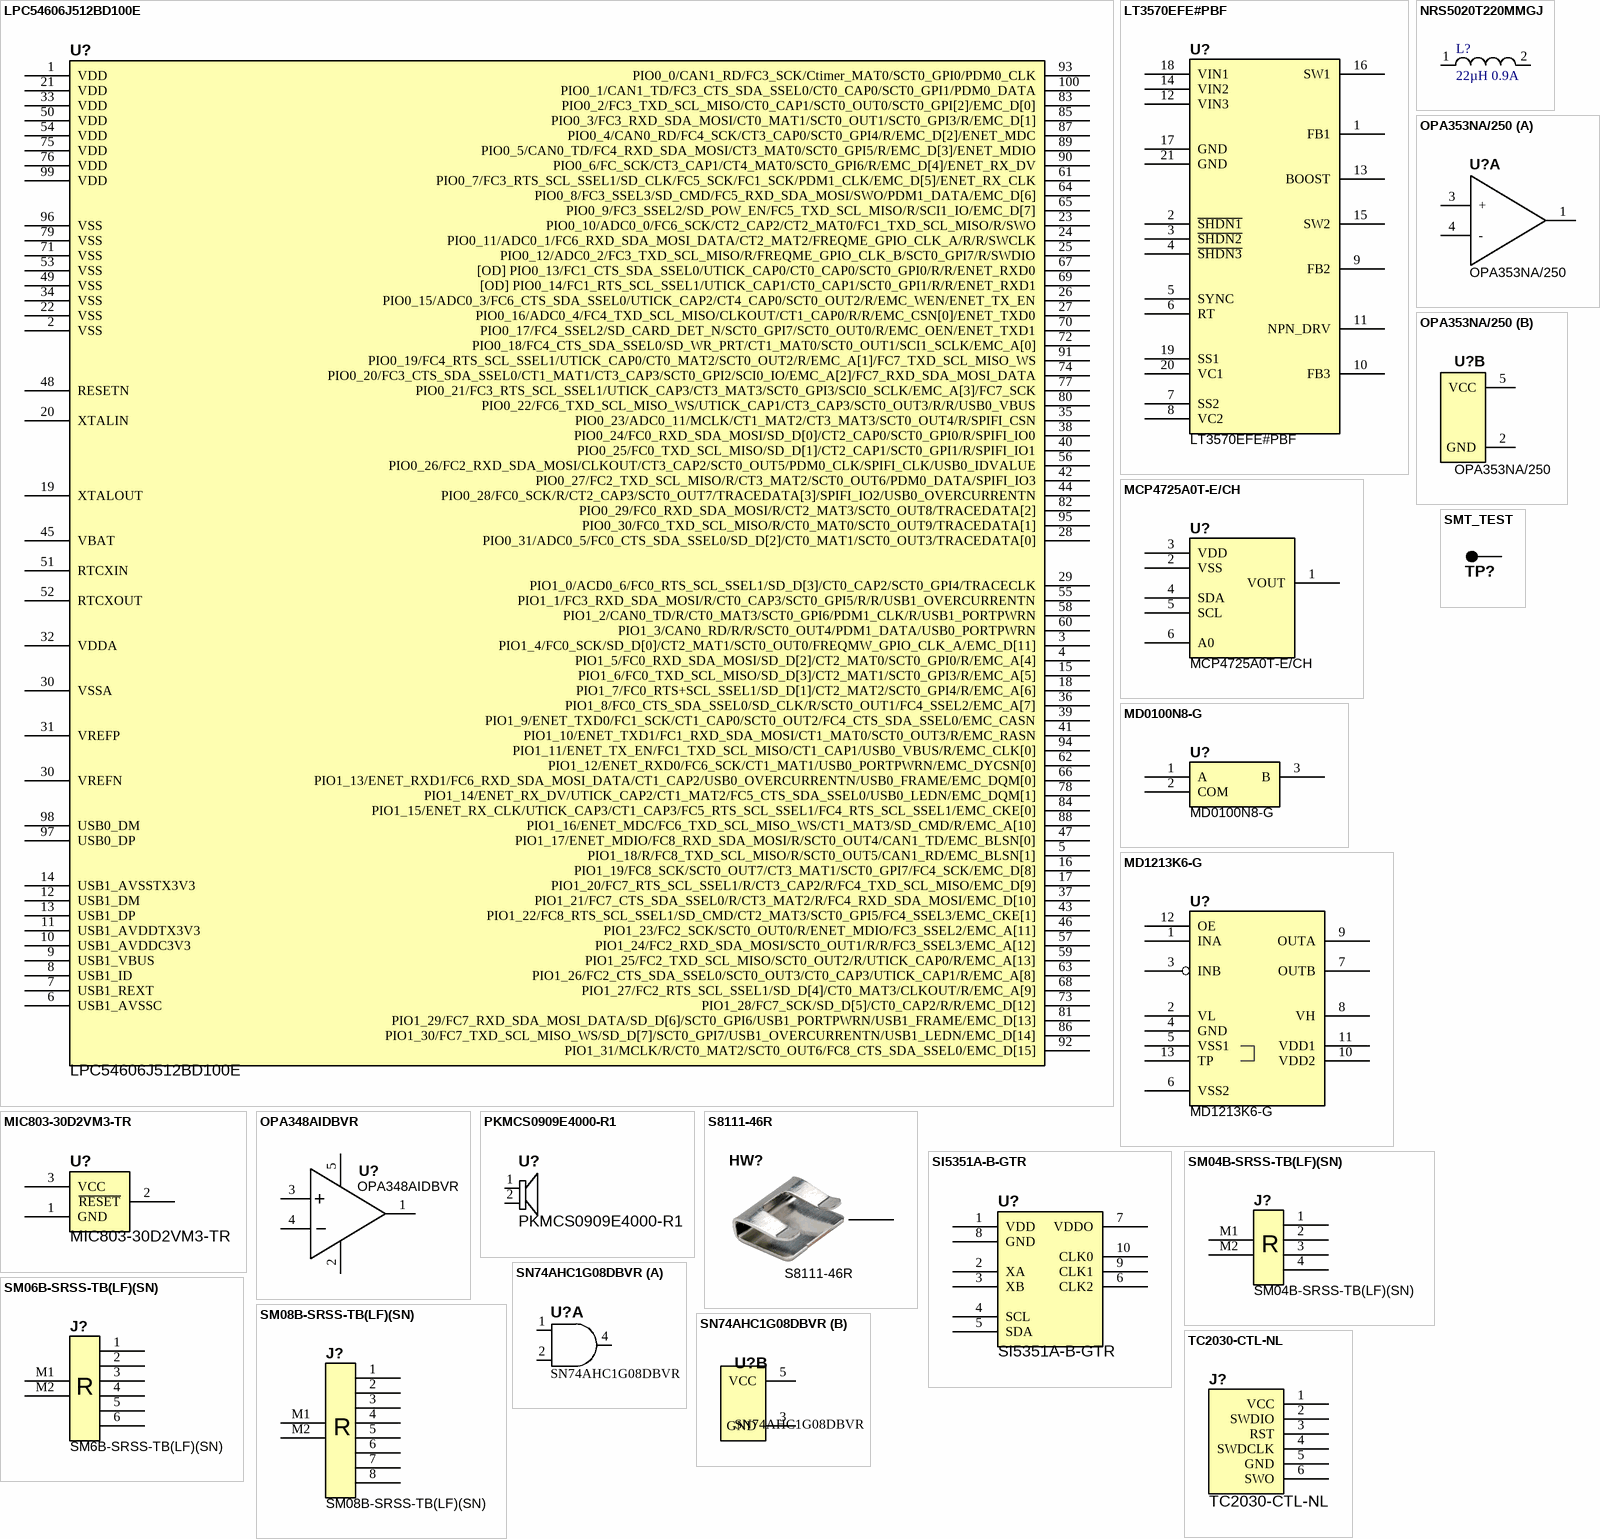
[diagram p1: symbols LPC54606J512BD100E to TC2030‐CTL‐NL]

## LPC54606J512BD100E
designator U?
32-BIT ARM CORTEX-M4; Manufacturer: NXP USA Inc.; Core Processor: ARM® Cortex®-M4; Speed: 180MHz; Connectivity: CAN, Ethernet, I²C, SPI, UART/USART, USB; Peripherals: Brown-out Detect/Reset, DMA, I²S, POR, PWM, WDT; Program Memory Size: 512KB (512K x 8); Program Memory Type: FLASH; EEPROM Size: 16K x 8; RAM Size: 200K x 8; Voltage - Supply (Vcc/Vdd): 1.71 V ~ 3.6 V; Data Converters: A/D 12x12b; Oscillator Type: Internal; Value: LPC54606J512BD100E; Supplier 1: Digi-Key; Supplier Part Number 1: 568-13456-ND; Manufacturer Part Number: LPC54606J512BD100E; RoHS: Request Inventory Verification; Category: Integrated Circuits (ICs); Stock 1: 0; Packaging: Tray; Part Status: Active; Core Size: 32-Bit; Operating Temperature: -40°C ~ 105°C (TA); Package / Case: 100-LQFP; Supplier Device Package: 100-LQFP (14x14); ComponentLink1URL: http://www.nxp.com/docs/en/data-sheet/LPC546XX.pdf; ComponentLink1Description: http://www.nxp.com/docs/en/data-sheet/LPC546XX.pdf
footprint TSQFP50P1600X1600X160-100N (TSQFP, 100-Leads, Body 14.00x14.00mm, Pitch 0.50mm, IPC Medium Density)
pins: 1 VDD, 2 VSS, 3 PIO1_4/FC0_SCK/SD_D[0]/CT2_MAT1/SCT0_OUT0/FREQMW_GPIO_CLK_A/EMC_D[11], 4 PIO1_5/FC0_RXD_SDA_MOSI/SD_D[2]/CT2_MAT0/SCT0_GPI0/R/EMC_A[4], 5 PIO1_18/R/FC8_TXD_SCL_MISO/R/SCT0_OUT5/CAN1_RD/EMC_BLSN[1], 6 USB1_AVSSC, 7 USB1_REXT, 8 USB1_ID, 9 USB1_VBUS, 10 USB1_AVDDC3V3, 11 USB1_AVDDTX3V3, 12 USB1_DM, 13 USB1_DP, 14 USB1_AVSSTX3V3, 15 PIO1_6/FC0_TXD_SCL_MISO/SD_D[3]/CT2_MAT1/SCT0_GPI3/R/EMC_A[5], 16 PIO1_19/FC8_SCK/SCT0_OUT7/CT3_MAT1/SCT0_GPI7/FC4_SCK/EMC_D[8], 17 PIO1_20/FC7_RTS_SCL_SSEL1/R/CT3_CAP2/R/FC4_TXD_SCL_MISO/EMC_D[9], 18 PIO1_7/FC0_RTS+SCL_SSEL1/SD_D[1]/CT2_MAT2/SCT0_GPI4/R/EMC_A[6], 19 XTALOUT, 20 XTALIN, 21 VDD, 22 VSS, 23 PIO0_10/ADC0_0/FC6_SCK/CT2_CAP2/CT2_MAT0/FC1_TXD_SCL_MISO/R/SWO, 24 PIO0_11/ADC0_1/FC6_RXD_SDA_MOSI_DATA/CT2_MAT2/FREQME_GPIO_CLK_A/R/R/SWCLK, 25 PIO0_12/ADC0_2/FC3_TXD_SCL_MISO/R/FREQME_GPIO_CLK_B/SCT0_GPI7/R/SWDIO, 26 PIO0_15/ADC0_3/FC6_CTS_SDA_SSEL0/UTICK_CAP2/CT4_CAP0/SCT0_OUT2/R/EMC_WEN/ENET_TX_EN, 27 PIO0_16/ADC0_4/FC4_TXD_SCL_MISO/CLKOUT/CT1_CAP0/R/R/EMC_CSN[0]/ENET_TXD0, 28 PIO0_31/ADC0_5/FC0_CTS_SDA_SSEL0/SD_D[2]/CT0_MAT1/SCT0_OUT3/TRACEDATA[0], 29 PIO1_0/ACD0_6/FC0_RTS_SCL_SSEL1/SD_D[3]/CT0_CAP2/SCT0_GPI4/TRACECLK, 30 VREFN, 30 VSSA, 31 VREFP, 32 VDDA, 33 VDD, 34 VSS, 35 PIO0_23/ADC0_11/MCLK/CT1_MAT2/CT3_MAT3/SCT0_OUT4/R/SPIFI_CSN, 36 PIO1_8/FC0_CTS_SDA_SSEL0/SD_CLK/R/SCT0_OUT1/FC4_SSEL2/EMC_A[7], 37 PIO1_21/FC7_CTS_SDA_SSEL0/R/CT3_MAT2/R/FC4_RXD_SDA_MOSI/EMC_D[10], 38 PIO0_24/FC0_RXD_SDA_MOSI/SD_D[0]/CT2_CAP0/SCT0_GPI0/R/SPIFI_IO0, 39 PIO1_9/ENET_TXD0/FC1_SCK/CT1_CAP0/SCT0_OUT2/FC4_CTS_SDA_SSEL0/EMC_CASN, 40 PIO0_25/FC0_TXD_SCL_MISO/SD_D[1]/CT2_CAP1/SCT0_GPI1/R/SPIFI_IO1, 41 PIO1_10/ENET_TXD1/FC1_RXD_SDA_MOSI/CT1_MAT0/SCT0_OUT3/R/EMC_RASN, 42 PIO0_27/FC2_TXD_SCL_MISO/R/CT3_MAT2/SCT0_OUT6/PDM0_DATA/SPIFI_IO3, 43 PIO1_22/FC8_RTS_SCL_SSEL1/SD_CMD/CT2_MAT3/SCT0_GPI5/FC4_SSEL3/EMC_CKE[1], 44 PIO0_28/FC0_SCK/R/CT2_CAP3/SCT0_OUT7/TRACEDATA[3]/SPIFI_IO2/USB0_OVERCURRENTN, 45 VBAT, 46 PIO1_23/FC2_SCK/SCT0_OUT0/R/ENET_MDIO/FC3_SSEL2/EMC_A[11], 47 PIO1_17/ENET_MDIO/FC8_RXD_SDA_MOSI/R/SCT0_OUT4/CAN1_TD/EMC_BLSN[0], 48 RESETN, 49 VSS, 50 VDD, 51 RTCXIN, 52 RTCXOUT, 53 VSS, 54 VDD, 55 PIO1_1/FC3_RXD_SDA_MOSI/R/CT0_CAP3/SCT0_GPI5/R/R/USB1_OVERCURRENTN, 56 PIO0_26/FC2_RXD_SDA_MOSI/CLKOUT/CT3_CAP2/SCT0_OUT5/PDM0_CLK/SPIFI_CLK/USB0_IDVALUE, 57 PIO1_24/FC2_RXD_SDA_MOSI/SCT0_OUT1/R/R/FC3_SSEL3/EMC_A[12], 58 PIO1_2/CAN0_TD/R/CT0_MAT3/SCT0_GPI6/PDM1_CLK/R/USB1_PORTPWRN, 59 PIO1_25/FC2_TXD_SCL_MISO/SCT0_OUT2/R/UTICK_CAP0/R/EMC_A[13], 60 PIO1_3/CAN0_RD/R/R/SCT0_OUT4/PDM1_DATA/USB0_PORTPWRN, 61 PIO0_7/FC3_RTS_SCL_SSEL1/SD_CLK/FC5_SCK/FC1_SCK/PDM1_CLK/EMC_D[5]/ENET_RX_CLK, 62 PIO1_12/ENET_RXD0/FC6_SCK/CT1_MAT1/USB0_PORTPWRN/EMC_DYCSN[0], 63 PIO1_26/FC2_CTS_SDA_SSEL0/SCT0_OUT3/CT0_CAP3/UTICK_CAP1/R/EMC_A[8], 64 PIO0_8/FC3_SSEL3/SD_CMD/FC5_RXD_SDA_MOSI/SWO/PDM1_DATA/EMC_D[6], 65 PIO0_9/FC3_SSEL2/SD_POW_EN/FC5_TXD_SCL_MISO/R/SCI1_IO/EMC_D[7], 66 PIO1_13/ENET_RXD1/FC6_RXD_SDA_MOSI_DATA/CT1_CAP2/USB0_OVERCURRENTN/USB0_FRAME/EMC_DQM[0], 67 [OD] PIO0_13/FC1_CTS_SDA_SSEL0/UTICK_CAP0/CT0_CAP0/SCT0_GPI0/R/R/ENET_RXD0, 68 PIO1_27/FC2_RTS_SCL_SSEL1/SD_D[4]/CT0_MAT3/CLKOUT/R/EMC_A[9], 69 [OD] PIO0_14/FC1_RTS_SCL_SSEL1/UTICK_CAP1/CT0_CAP1/SCT0_GPI1/R/R/ENET_RXD1, 70 PIO0_17/FC4_SSEL2/SD_CARD_DET_N/SCT0_GPI7/SCT0_OUT0/R/EMC_OEN/ENET_TXD1, 71 VSS, 72 PIO0_18/FC4_CTS_SDA_SSEL0/SD_WR_PRT/CT1_MAT0/SCT0_OUT1/SCI1_SCLK/EMC_A[0], 73 PIO1_28/FC7_SCK/SD_D[5]/CT0_CAP2/R/R/EMC_D[12], 74 PIO0_20/FC3_CTS_SDA_SSEL0/CT1_MAT1/CT3_CAP3/SCT0_GPI2/SCI0_IO/EMC_A[2]/FC7_RXD_SDA_MOSI_DATA, 75 VDD, 76 VDD, 77 PIO0_21/FC3_RTS_SCL_SSEL1/UTICK_CAP3/CT3_MAT3/SCT0_GPI3/SCI0_SCLK/EMC_A[3]/FC7_SCK, 78 PIO1_14/ENET_RX_DV/UTICK_CAP2/CT1_MAT2/FC5_CTS_SDA_SSEL0/USB0_LEDN/EMC_DQM[1], 79 VSS, 80 PIO0_22/FC6_TXD_SCL_MISO_WS/UTICK_CAP1/CT3_CAP3/SCT0_OUT3/R/R/USB0_VBUS, 81 PIO1_29/FC7_RXD_SDA_MOSI_DATA/SD_D[6]/SCT0_GPI6/USB1_PORTPWRN/USB1_FRAME/EMC_D[13], 82 PIO0_29/FC0_RXD_SDA_MOSI/R/CT2_MAT3/SCT0_OUT8/TRACEDATA[2], 83 PIO0_2/FC3_TXD_SCL_MISO/CT0_CAP1/SCT0_OUT0/SCT0_GPI[2]/EMC_D[0], 84 PIO1_15/ENET_RX_CLK/UTICK_CAP3/CT1_CAP3/FC5_RTS_SCL_SSEL1/FC4_RTS_SCL_SSEL1/EMC_CKE[0], 85 PIO0_3/FC3_RXD_SDA_MOSI/CT0_MAT1/SCT0_OUT1/SCT0_GPI3/R/EMC_D[1], 86 PIO1_30/FC7_TXD_SCL_MISO_WS/SD_D[7]/SCT0_GPI7/USB1_OVERCURRENTN/USB1_LEDN/EMC_D[14], 87 PIO0_4/CAN0_RD/FC4_SCK/CT3_CAP0/SCT0_GPI4/R/EMC_D[2]/ENET_MDC, 88 PIO1_16/ENET_MDC/FC6_TXD_SCL_MISO_WS/CT1_MAT3/SD_CMD/R/EMC_A[10], 89 PIO0_5/CAN0_TD/FC4_RXD_SDA_MOSI/CT3_MAT0/SCT0_GPI5/R/EMC_D[3]/ENET_MDIO, 90 PIO0_6/FC_SCK/CT3_CAP1/CT4_MAT0/SCT0_GPI6/R/EMC_D[4]/ENET_RX_DV, 91 PIO0_19/FC4_RTS_SCL_SSEL1/UTICK_CAP0/CT0_MAT2/SCT0_OUT2/R/EMC_A[1]/FC7_TXD_SCL_MISO_WS, 92 PIO1_31/MCLK/R/CT0_MAT2/SCT0_OUT6/FC8_CTS_SDA_SSEL0/EMC_D[15], 93 PIO0_0/CAN1_RD/FC3_SCK/Ctimer_MAT0/SCT0_GPI0/PDM0_CLK, 94 PIO1_11/ENET_TX_EN/FC1_TXD_SCL_MISO/CT1_CAP1/USB0_VBUS/R/EMC_CLK[0], 95 PIO0_30/FC0_TXD_SCL_MISO/R/CT0_MAT0/SCT0_OUT9/TRACEDATA[1], 96 VSS, 97 USB0_DP, 98 USB0_DM, 99 VDD, 100 PIO0_1/CAN1_TD/FC3_CTS_SDA_SSEL0/CT0_CAP0/SCT0_GPI1/PDM0_DATA